# EAGLE library part POTI_DIGI_TWI_4X (library robo_ag)
Digitales Potentiometer Reichelt:MCP 4461-103E/ST 3-5V 256 Steps 10k TWI
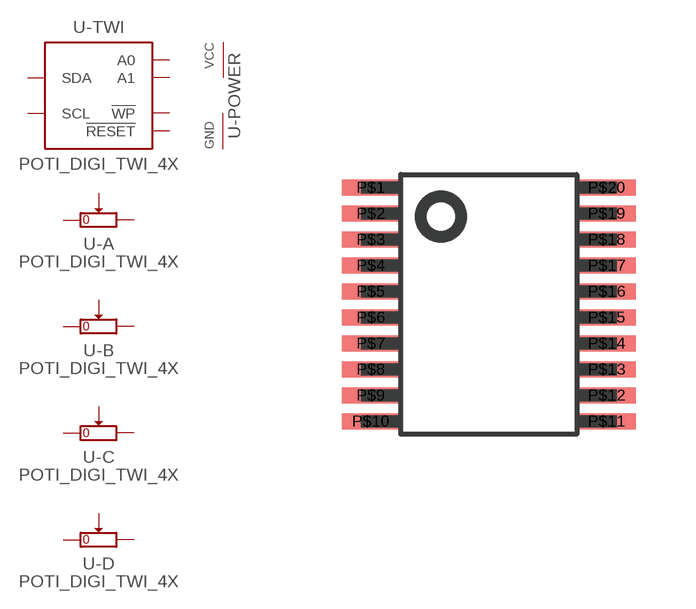
[diagram p13: symbol with the pads of IC_TSSOP20; footprint IC_TSSOP20]

Designator prefix -; gates -POWER=POWER -A=POTI -B=POTI -C=POTI -D=POTI -TWI=TWI_MCP4461

## POTI_DIGI_TWI_4X  [IC_TSSOP20]
P$1  -D:LOW  pas
P$2  -D:WIPE  pas
P$3  -D:HIGH  pas
P$4  -TWI:A0  in
P$5  -TWI:SCL
P$6  -TWI:SDA
P$7  -POWER:GND  pwr
P$8  -B:HIGH  pas
P$9  -B:WIPE  pas
P$10  -B:LOW  pas
P$11  -A:LOW  pas
P$12  -A:WIPE  pas
P$13  -A:HIGH  pas
P$14  -TWI:!WP  in
P$15  -TWI:!RESET  in
P$16  -TWI:A1  in
P$17  -POWER:VCC  pwr
P$18  -C:HIGH  pas
P$19  -C:WIPE  pas
P$20  -C:LOW  pas

## Footprint IC_TSSOP20 (pad centres in mm)
smd 1.45 x 0.4: P$1 -2.95,2.925; P$2 -2.95,2.275; P$3 -2.95,1.625; P$4 -2.95,0.975; P$5 -2.95,0.325; P$6 -2.95,-0.325; P$7 -2.95,-0.975; P$8 -2.95,-1.625; P$9 -2.95,-2.275; P$10 -2.95,-2.925; P$11 2.95,-2.925; P$12 2.95,-2.275; P$13 2.95,-1.625; P$14 2.95,-0.975; P$15 2.95,-0.325; P$16 2.95,0.325; P$17 2.95,0.975; P$18 2.95,1.625; P$19 2.95,2.275; P$20 2.95,2.925